# Altium integrated library Diodes - TVS.IntLib: 5379 symbols (part 4 of 122)
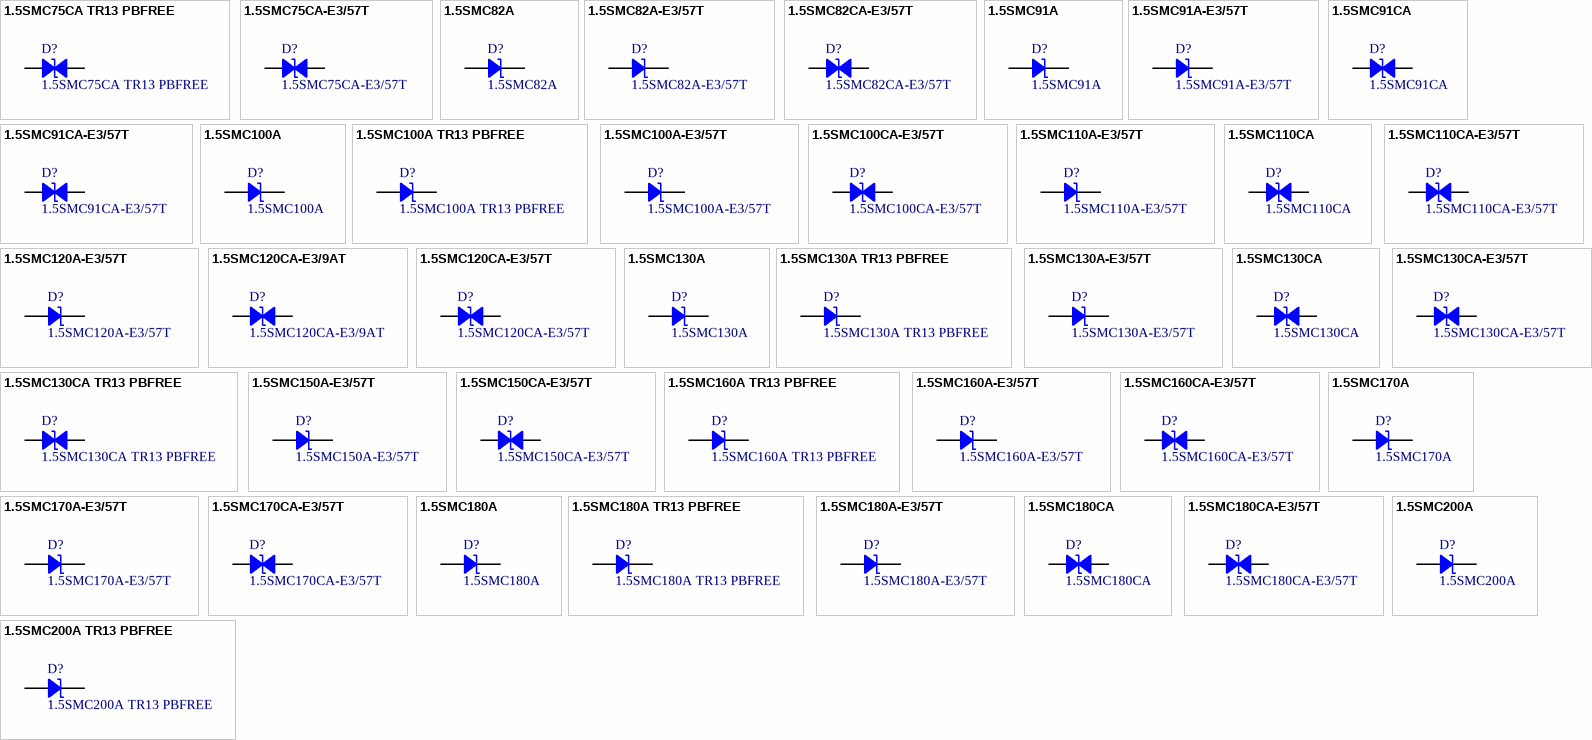
[diagram p137: symbols 1.5SMC75CA TR13 PBFREE to 1.5SMC200A TR13 PBFREE]

## 1.5SMC100A TR13 PBFREE
designator D?
TVS DIODE 85.5V 137V SMC; Manufacturer: Central Semiconductor Corp; Current - Peak Pulse (10/1000µs): 11A; Power Line Protection: No; Power - Peak Pulse: 1500W (1.5kW); Type: Zener; Unidirectional Channels: 1; Voltage - Breakdown (Min): 95V; Part Number: 1.5SMC100A TR13 PBFREE; Applications: General Purpose; ComponentLink1Description: Datasheet; ComponentLink1URL: https://my.centralsemi.com/get_document.php?cmp=1&mergetype=pd&mergepath=pd&pdf_id=1.5SMC6.8A_200A.PDF; ComponentLink2Description: DigiKey Link; ComponentLink2URL: http://digikey.com/product-detail/en/central-semiconductor-corp/1.5SMC100A-TR13-PBFREE/1514-1.5SMC100ATR13PBFREECT-ND/5210741; LastUpdated: 9/2/2020 1:20:07 AM; Lifecycle Status: Active; Minimum Order: 1; Mounting Type: Surface Mount; Operating Temperature: -65°C ~ 150°C (TJ); Package / Case: DO-214AB, SMC; Packaging: TapeAndReel; PartId: 7125; Part Status: Active; Price: 0.40; Series: -; Supplier 1: DigiKey; Supplier Part Number 1: 1514-1.5SMC100ATR13PBFREECT-ND; Supplier Device Package: SMC; Voltage - Clamping (Max) @ Ipp: 137V; Voltage - Reverse Standoff (Typ): 85.5V
footprint DO214AB SMC
pins: 1, 2

## 1.5SMC100A-E3/57T
designator D?
TVS DIODE 85.5V 137V DO214AB; Manufacturer: Vishay Semiconductor Diodes Division; Current - Peak Pulse (10/1000µs): 10.9A; Power Line Protection: No; Power - Peak Pulse: 1500W (1.5kW); Type: Zener; Unidirectional Channels: 1; Voltage - Breakdown (Min): 95V; Part Number: 1.5SMC100A-E3/57T; Applications: General Purpose; ComponentLink1Description: Datasheet; ComponentLink1URL: http://www.vishay.com/docs/88303/15smc.pdf; ComponentLink2Description: DigiKey Link; ComponentLink2URL: http://digikey.com/product-detail/en/vishay-semiconductor-diodes-division/1.5SMC100A-E3-57T/1.5SMC100A-E3-57TGICT-ND/5638963; LastUpdated: 9/2/2020 1:20:05 AM; Lifecycle Status: Active; Minimum Order: 1; Mounting Type: Surface Mount; Operating Temperature: -65°C ~ 150°C (TJ); Package / Case: DO-214AB, SMC; Packaging: TapeAndReel; PartId: 6916; Part Status: Active; Price: 0.28; Series: 1.5SMC, TransZorb®; Supplier 1: DigiKey; Supplier Part Number 1: 1.5SMC100A-E3/57TGICT-ND; Supplier Device Package: SMC (DO-214AB); Voltage - Clamping (Max) @ Ipp: 137V; Voltage - Reverse Standoff (Typ): 85.5V
footprint DO214AB SMC
pins: 1, 2

## 1.5SMC100CA-E3/57T
designator D?
TVS DIODE 85.5V 137V DO214AB; Manufacturer: Vishay Semiconductor Diodes Division; Bidirectional Channels: 1; Current - Peak Pulse (10/1000µs): 10.9A; Power Line Protection: No; Power - Peak Pulse: 1500W (1.5kW); Type: Zener; Voltage - Breakdown (Min): 95V; Part Number: 1.5SMC100CA-E3/57T; Applications: General Purpose; ComponentLink1Description: Datasheet; ComponentLink1URL: http://www.vishay.com/docs/88303/15smc.pdf; ComponentLink2Description: DigiKey Link; ComponentLink2URL: http://digikey.com/product-detail/en/vishay-semiconductor-diodes-division/1.5SMC100CA-E3-57T/1.5SMC100CA-E3-57TGICT-ND/5638964; LastUpdated: 9/2/2020 1:28:02 AM; Lifecycle Status: Active; Minimum Order: 1; Mounting Type: Surface Mount; Operating Temperature: -65°C ~ 150°C (TJ); Package / Case: DO-214AB, SMC; Packaging: TapeAndReel; PartId: 8048; Part Status: Active; Price: 0.33; Series: 1.5SMC, TransZorb®; Supplier 1: DigiKey; Supplier Part Number 1: 1.5SMC100CA-E3/57TGICT-ND; Supplier Device Package: SMC (DO-214AB); Voltage - Clamping (Max) @ Ipp: 137V; Voltage - Reverse Standoff (Typ): 85.5V
footprint DO214AB SMC
pins: 1, 2

## 1.5SMC110A-E3/57T
designator D?
TVS DIODE 94V 152V DO214AB; Manufacturer: Vishay Semiconductor Diodes Division; Current - Peak Pulse (10/1000µs): 9.9A; Power Line Protection: No; Power - Peak Pulse: 1500W (1.5kW); Type: Zener; Unidirectional Channels: 1; Voltage - Breakdown (Min): 105V; Part Number: 1.5SMC110A-E3/57T; Applications: General Purpose; ComponentLink1Description: Datasheet; ComponentLink1URL: http://www.vishay.com/docs/88303/15smc.pdf; ComponentLink2Description: DigiKey Link; ComponentLink2URL: http://digikey.com/product-detail/en/vishay-semiconductor-diodes-division/1.5SMC110A-E3-57T/1.5SMC110A-E3-57TGICT-ND/5638967; LastUpdated: 9/2/2020 1:20:03 AM; Lifecycle Status: Active; Minimum Order: 1; Mounting Type: Surface Mount; Operating Temperature: -65°C ~ 150°C (TJ); Package / Case: DO-214AB, SMC; Packaging: TapeAndReel; PartId: 6688; Part Status: Active; Price: 0.28; Series: 1.5SMC, TransZorb®; Supplier 1: DigiKey; Supplier Part Number 1: 1.5SMC110A-E3/57TGICT-ND; Supplier Device Package: SMC (DO-214AB); Voltage - Clamping (Max) @ Ipp: 152V; Voltage - Reverse Standoff (Typ): 94V
footprint DO214AB SMC
pins: 1, 2

## 1.5SMC110CA
designator D?
TVS DIODE 94V 152V DO214AB; Manufacturer: Littelfuse Inc.; Bidirectional Channels: 1; Current - Peak Pulse (10/1000µs): 10A; Power Line Protection: No; Power - Peak Pulse: 1500W (1.5kW); Type: Zener; Voltage - Breakdown (Min): 105V; Part Number: 1.5SMC110CA; Applications: General Purpose; ComponentLink1Description: Datasheet; ComponentLink1URL: https://www.littelfuse.com/~/media/electronics/datasheets/tvs_diodes/littelfuse_tvs_diode_1_5smc_datasheet.pdf.pdf; ComponentLink2Description: DigiKey Link; ComponentLink2URL: http://digikey.com/product-detail/en/littelfuse-inc/1.5SMC110CA/1.5SMC110CACT-ND/2770244; LastUpdated: 9/2/2020 1:28:02 AM; Lifecycle Status: Active; Minimum Order: 1; Mounting Type: Surface Mount; Operating Temperature: -55°C ~ 150°C (TJ); Package / Case: DO-214AB, SMC; Packaging: TapeAndReel; PartId: 8039; Part Status: Active; Price: 0.27; Series: 1.5SMC; Supplier 1: DigiKey; Supplier Part Number 1: 1.5SMC110CACT-ND; Supplier Device Package: DO-214AB (SMCJ); Voltage - Clamping (Max) @ Ipp: 152V; Voltage - Reverse Standoff (Typ): 94V
footprint DO214AB SMC
pins: 1, 2

## 1.5SMC110CA-E3/57T
designator D?
TVS DIODE 94V 152V DO214AB; Manufacturer: Vishay Semiconductor Diodes Division; Bidirectional Channels: 1; Current - Peak Pulse (10/1000µs): 9.9A; Power Line Protection: No; Power - Peak Pulse: 1500W (1.5kW); Type: Zener; Voltage - Breakdown (Min): 105V; Part Number: 1.5SMC110CA-E3/57T; Applications: General Purpose; ComponentLink1Description: Datasheet; ComponentLink1URL: http://www.vishay.com/docs/88303/15smc.pdf; ComponentLink2Description: DigiKey Link; ComponentLink2URL: http://digikey.com/product-detail/en/vishay-semiconductor-diodes-division/1.5SMC110CA-E3-57T/1.5SMC110CA-E3-57TGICT-ND/5638968; LastUpdated: 9/2/2020 1:28:08 AM; Lifecycle Status: Active; Minimum Order: 1; Mounting Type: Surface Mount; Operating Temperature: -65°C ~ 150°C (TJ); Package / Case: DO-214AB, SMC; Packaging: TapeAndReel; PartId: 8657; Part Status: Active; Price: 0.33; Series: 1.5SMC, TransZorb®; Supplier 1: DigiKey; Supplier Part Number 1: 1.5SMC110CA-E3/57TGICT-ND; Supplier Device Package: SMC (DO-214AB); Voltage - Clamping (Max) @ Ipp: 152V; Voltage - Reverse Standoff (Typ): 94V
footprint DO214AB SMC
pins: 1, 2

## 1.5SMC120A-E3/57T
designator D?
TVS DIODE 102V 165V DO214AB; Manufacturer: Vishay Semiconductor Diodes Division; Current - Peak Pulse (10/1000µs): 9.1A; Power Line Protection: No; Power - Peak Pulse: 1500W (1.5kW); Type: Zener; Unidirectional Channels: 1; Voltage - Breakdown (Min): 114V; Part Number: 1.5SMC120A-E3/57T; Applications: General Purpose; ComponentLink1Description: Datasheet; ComponentLink1URL: http://www.vishay.com/docs/88303/15smc.pdf; ComponentLink2Description: DigiKey Link; ComponentLink2URL: http://digikey.com/product-detail/en/vishay-semiconductor-diodes-division/1.5SMC120A-E3-57T/1.5SMC120A-E3-57TGICT-ND/5638971; LastUpdated: 9/2/2020 1:20:07 AM; Lifecycle Status: Active; Minimum Order: 1; Mounting Type: Surface Mount; Operating Temperature: -65°C ~ 150°C (TJ); Package / Case: DO-214AB, SMC; Packaging: TapeAndReel; PartId: 7152; Part Status: Active; Price: 0.28; Series: 1.5SMC, TransZorb®; Supplier 1: DigiKey; Supplier Part Number 1: 1.5SMC120A-E3/57TGICT-ND; Supplier Device Package: SMC (DO-214AB); Voltage - Clamping (Max) @ Ipp: 165V; Voltage - Reverse Standoff (Typ): 102V
footprint DO214AB SMC
pins: 1, 2

## 1.5SMC120CA-E3/9AT
designator D?
TVS DIODE 102V 165V DO214AB; Manufacturer: Vishay Semiconductor Diodes Division; Bidirectional Channels: 1; Current - Peak Pulse (10/1000µs): 9.1A; Power Line Protection: No; Power - Peak Pulse: 1500W (1.5kW); Type: Zener; Voltage - Breakdown (Min): 114V; Part Number: 1.5SMC120CA-E3/9AT; Applications: General Purpose; ComponentLink1Description: Datasheet; ComponentLink1URL: http://www.vishay.com/docs/88303/15smc.pdf; ComponentLink2Description: DigiKey Link; ComponentLink2URL: http://digikey.com/product-detail/en/vishay-semiconductor-diodes-division/1.5SMC120CA-E3-9AT/1.5SMC120CA-E3-9ATGICT-ND/9600361; LastUpdated: 9/2/2020 1:28:04 AM; Lifecycle Status: Active; Minimum Order: 1; Mounting Type: Surface Mount; Operating Temperature: -65°C ~ 150°C (TJ); Package / Case: DO-214AB, SMC; Packaging: TapeAndReel; PartId: 8227; Part Status: Active; Price: 0.26; Series: 1.5SMC, TransZorb®; Supplier 1: DigiKey; Supplier Part Number 1: 1.5SMC120CA-E3/9ATGICT-ND; Supplier Device Package: SMC (DO-214AB); Voltage - Clamping (Max) @ Ipp: 165V; Voltage - Reverse Standoff (Typ): 102V
footprint DO214AB SMC
pins: 1, 2

## 1.5SMC120CA-E3/57T
designator D?
TVS DIODE 102V 165V DO214AB; Manufacturer: Vishay Semiconductor Diodes Division; Bidirectional Channels: 1; Current - Peak Pulse (10/1000µs): 9.1A; Power Line Protection: No; Power - Peak Pulse: 1500W (1.5kW); Type: Zener; Voltage - Breakdown (Min): 114V; Part Number: 1.5SMC120CA-E3/57T; Applications: General Purpose; ComponentLink1Description: Datasheet; ComponentLink1URL: http://www.vishay.com/docs/88303/15smc.pdf; ComponentLink2Description: DigiKey Link; ComponentLink2URL: http://digikey.com/product-detail/en/vishay-semiconductor-diodes-division/1.5SMC120CA-E3-57T/1.5SMC120CA-E3-57TGICT-ND/3847591; LastUpdated: 9/2/2020 1:28:09 AM; Lifecycle Status: Active; Minimum Order: 1; Mounting Type: Surface Mount; Operating Temperature: -65°C ~ 150°C (TJ); Package / Case: DO-214AB, SMC; Packaging: TapeAndReel; PartId: 8746; Part Status: Active; Price: 0.28; Series: 1.5SMC, TransZorb®; Supplier 1: DigiKey; Supplier Part Number 1: 1.5SMC120CA-E3/57TGICT-ND; Supplier Device Package: SMC (DO-214AB); Voltage - Clamping (Max) @ Ipp: 165V; Voltage - Reverse Standoff (Typ): 102V
footprint DO214AB SMC
pins: 1, 2

## 1.5SMC130A
designator D?
TVS DIODE 111V 179V DO214AB; Manufacturer: Littelfuse Inc.; Current - Peak Pulse (10/1000µs): 8.5A; Power Line Protection: No; Power - Peak Pulse: 1500W (1.5kW); Type: Zener; Unidirectional Channels: 1; Voltage - Breakdown (Min): 124V; Part Number: 1.5SMC130A; Applications: General Purpose; ComponentLink1Description: Datasheet; ComponentLink1URL: https://www.littelfuse.com/~/media/electronics/datasheets/tvs_diodes/littelfuse_tvs_diode_1_5smc_datasheet.pdf.pdf; ComponentLink2Description: DigiKey Link; ComponentLink2URL: http://digikey.com/product-detail/en/littelfuse-inc/1.5SMC130A/1.5SMC130ACT-ND/2770245; LastUpdated: 9/2/2020 1:20:00 AM; Lifecycle Status: Active; Minimum Order: 1; Mounting Type: Surface Mount; Operating Temperature: -55°C ~ 150°C (TJ); Package / Case: DO-214AB, SMC; Packaging: TapeAndReel; PartId: 6395; Part Status: Active; Price: 0.25; Series: 1.5SMC; Supplier 1: DigiKey; Supplier Part Number 1: 1.5SMC130ACT-ND; Supplier Device Package: DO-214AB (SMCJ); Voltage - Clamping (Max) @ Ipp: 179V; Voltage - Reverse Standoff (Typ): 111V
footprint DO214AB SMC
pins: 1, 2

## 1.5SMC130A TR13 PBFREE
designator D?
TVS DIODE 111V 179V SMC; Manufacturer: Central Semiconductor Corp; Current - Peak Pulse (10/1000µs): 8.4A; Power Line Protection: No; Power - Peak Pulse: 1500W (1.5kW); Type: Zener; Unidirectional Channels: 1; Voltage - Breakdown (Min): 123.5V; Part Number: 1.5SMC130A TR13 PBFREE; Applications: General Purpose; ComponentLink1Description: Datasheet; ComponentLink1URL: https://my.centralsemi.com/get_document.php?cmp=1&mergetype=pd&mergepath=pd&pdf_id=1.5SMC6.8A_200A.PDF; ComponentLink2Description: DigiKey Link; ComponentLink2URL: http://digikey.com/product-detail/en/central-semiconductor-corp/1.5SMC130A-TR13-PBFREE/1514-1.5SMC130ATR13PBFREECT-ND/5210753; LastUpdated: 9/2/2020 1:20:07 AM; Lifecycle Status: Active; Minimum Order: 1; Mounting Type: Surface Mount; Operating Temperature: -65°C ~ 150°C (TJ); Package / Case: DO-214AB, SMC; Packaging: TapeAndReel; PartId: 7123; Part Status: Active; Price: 0.40; Series: -; Supplier 1: DigiKey; Supplier Part Number 1: 1514-1.5SMC130ATR13PBFREECT-ND; Supplier Device Package: SMC; Voltage - Clamping (Max) @ Ipp: 179V; Voltage - Reverse Standoff (Typ): 111V
footprint DO214AB SMC
pins: 1, 2

## 1.5SMC130A-E3/57T
designator D?
TVS DIODE 111V 179V DO214AB; Manufacturer: Vishay Semiconductor Diodes Division; Current - Peak Pulse (10/1000µs): 8.4A; Power Line Protection: No; Power - Peak Pulse: 1500W (1.5kW); Type: Zener; Unidirectional Channels: 1; Voltage - Breakdown (Min): 124V; Part Number: 1.5SMC130A-E3/57T; Applications: General Purpose; ComponentLink1Description: Datasheet; ComponentLink1URL: http://www.vishay.com/docs/88303/15smc.pdf; ComponentLink2Description: DigiKey Link; ComponentLink2URL: http://digikey.com/product-detail/en/vishay-semiconductor-diodes-division/1.5SMC130A-E3-57T/1.5SMC130A-E3-57TGICT-ND/5638972; LastUpdated: 9/2/2020 1:20:00 AM; Lifecycle Status: Active; Minimum Order: 1; Mounting Type: Surface Mount; Operating Temperature: -65°C ~ 150°C (TJ); Package / Case: DO-214AB, SMC; Packaging: TapeAndReel; PartId: 6405; Part Status: Active; Price: 0.28; Series: 1.5SMC, TransZorb®; Supplier 1: DigiKey; Supplier Part Number 1: 1.5SMC130A-E3/57TGICT-ND; Supplier Device Package: SMC (DO-214AB); Voltage - Clamping (Max) @ Ipp: 179V; Voltage - Reverse Standoff (Typ): 111V
footprint DO214AB SMC
pins: 1, 2

## 1.5SMC130CA
designator D?
TVS DIODE 111V 179V DO214AB; Manufacturer: Littelfuse Inc.; Bidirectional Channels: 1; Current - Peak Pulse (10/1000µs): 8.5A; Power Line Protection: No; Power - Peak Pulse: 1500W (1.5kW); Type: Zener; Voltage - Breakdown (Min): 124V; Part Number: 1.5SMC130CA; Applications: General Purpose; ComponentLink1Description: Datasheet; ComponentLink1URL: https://www.littelfuse.com/~/media/electronics/datasheets/tvs_diodes/littelfuse_tvs_diode_1_5smc_datasheet.pdf.pdf; ComponentLink2Description: DigiKey Link; ComponentLink2URL: http://digikey.com/product-detail/en/littelfuse-inc/1.5SMC130CA/1.5SMC130CACT-ND/2770246; LastUpdated: 9/2/2020 1:28:08 AM; Lifecycle Status: Active; Minimum Order: 1; Mounting Type: Surface Mount; Operating Temperature: -55°C ~ 150°C (TJ); Package / Case: DO-214AB, SMC; Packaging: TapeAndReel; PartId: 8709; Part Status: Active; Price: 0.31; Series: 1.5SMC; Supplier 1: DigiKey; Supplier Part Number 1: 1.5SMC130CACT-ND; Supplier Device Package: DO-214AB (SMCJ); Voltage - Clamping (Max) @ Ipp: 179V; Voltage - Reverse Standoff (Typ): 111V
footprint DO214AB SMC
pins: 1, 2

## 1.5SMC130CA TR13 PBFREE
designator D?
TVS DIODE 111V 179V SMC; Manufacturer: Central Semiconductor Corp; Bidirectional Channels: 1; Current - Peak Pulse (10/1000µs): 8.4A; Power Line Protection: No; Power - Peak Pulse: 1500W (1.5kW); Type: Zener; Voltage - Breakdown (Min): 123.5V; Part Number: 1.5SMC130CA TR13 PBFREE; Applications: General Purpose; ComponentLink1Description: Datasheet; ComponentLink1URL: https://my.centralsemi.com/get_document.php?cmp=1&mergetype=pd&mergepath=pd&pdf_id=1.5SMC6.8CA_200CA.PDF; ComponentLink2Description: DigiKey Link; ComponentLink2URL: http://digikey.com/product-detail/en/central-semiconductor-corp/1.5SMC130CA-TR13-PBFREE/1514-1.5SMC130CATR13PBFREECT-ND/5210754; LastUpdated: 9/2/2020 1:28:03 AM; Lifecycle Status: Active; Minimum Order: 1; Mounting Type: Surface Mount; Operating Temperature: -65°C ~ 150°C (TJ); Package / Case: DO-214AB, SMC; Packaging: TapeAndReel; PartId: 8072; Part Status: Active; Price: 0.54; Series: -; Supplier 1: DigiKey; Supplier Part Number 1: 1514-1.5SMC130CATR13PBFREECT-ND; Supplier Device Package: SMC; Voltage - Clamping (Max) @ Ipp: 179V; Voltage - Reverse Standoff (Typ): 111V
footprint DO214AB SMC
pins: 1, 2

## 1.5SMC130CA-E3/57T
designator D?
TVS DIODE 111V 179V DO214AB; Manufacturer: Vishay Semiconductor Diodes Division; Bidirectional Channels: 1; Current - Peak Pulse (10/1000µs): 8.4A; Power Line Protection: No; Power - Peak Pulse: 1500W (1.5kW); Type: Zener; Voltage - Breakdown (Min): 124V; Part Number: 1.5SMC130CA-E3/57T; Applications: General Purpose; ComponentLink1Description: Datasheet; ComponentLink1URL: http://www.vishay.com/docs/88303/15smc.pdf; ComponentLink2Description: DigiKey Link; ComponentLink2URL: http://digikey.com/product-detail/en/vishay-semiconductor-diodes-division/1.5SMC130CA-E3-57T/1.5SMC130CA-E3-57TGICT-ND/3847592; LastUpdated: 9/2/2020 1:28:09 AM; Lifecycle Status: Active; Minimum Order: 1; Mounting Type: Surface Mount; Operating Temperature: -65°C ~ 150°C (TJ); Package / Case: DO-214AB, SMC; Packaging: TapeAndReel; PartId: 8740; Part Status: Active; Price: 0.33; Series: 1.5SMC, TransZorb®; Supplier 1: DigiKey; Supplier Part Number 1: 1.5SMC130CA-E3/57TGICT-ND; Supplier Device Package: SMC (DO-214AB); Voltage - Clamping (Max) @ Ipp: 179V; Voltage - Reverse Standoff (Typ): 111V
footprint DO214AB SMC
pins: 1, 2

## 1.5SMC150A-E3/57T
designator D?
TVS DIODE 128V 207V DO214AB; Manufacturer: Vishay Semiconductor Diodes Division; Current - Peak Pulse (10/1000µs): 7.2A; Power Line Protection: No; Power - Peak Pulse: 1500W (1.5kW); Type: Zener; Unidirectional Channels: 1; Voltage - Breakdown (Min): 143V; Part Number: 1.5SMC150A-E3/57T; Applications: General Purpose; ComponentLink1Description: Datasheet; ComponentLink1URL: http://www.vishay.com/docs/88303/15smc.pdf; ComponentLink2Description: DigiKey Link; ComponentLink2URL: http://digikey.com/product-detail/en/vishay-semiconductor-diodes-division/1.5SMC150A-E3-57T/1.5SMC150A-E3-57TGICT-ND/3711896; LastUpdated: 9/2/2020 1:19:59 AM; Lifecycle Status: Active; Minimum Order: 1; Mounting Type: Surface Mount; Operating Temperature: -65°C ~ 150°C (TJ); Package / Case: DO-214AB, SMC; Packaging: TapeAndReel; PartId: 6272; Part Status: Active; Price: 0.28; Series: 1.5SMC, TransZorb®; Supplier 1: DigiKey; Supplier Part Number 1: 1.5SMC150A-E3/57TGICT-ND; Supplier Device Package: SMC (DO-214AB); Voltage - Clamping (Max) @ Ipp: 207V; Voltage - Reverse Standoff (Typ): 128V
footprint DO214AB SMC
pins: 1, 2

## 1.5SMC150CA-E3/57T
designator D?
TVS DIODE 128V 207V DO214AB; Manufacturer: Vishay Semiconductor Diodes Division; Bidirectional Channels: 1; Current - Peak Pulse (10/1000µs): 7.2A; Power Line Protection: No; Power - Peak Pulse: 1500W (1.5kW); Type: Zener; Voltage - Breakdown (Min): 143V; Part Number: 1.5SMC150CA-E3/57T; Applications: General Purpose; ComponentLink1Description: Datasheet; ComponentLink1URL: http://www.vishay.com/docs/88303/15smc.pdf; ComponentLink2Description: DigiKey Link; ComponentLink2URL: http://digikey.com/product-detail/en/vishay-semiconductor-diodes-division/1.5SMC150CA-E3-57T/1.5SMC150CA-E3-57TGICT-ND/5638975; LastUpdated: 9/2/2020 1:28:09 AM; Lifecycle Status: Active; Minimum Order: 1; Mounting Type: Surface Mount; Operating Temperature: -65°C ~ 150°C (TJ); Package / Case: DO-214AB, SMC; Packaging: TapeAndReel; PartId: 8742; Part Status: Active; Price: 0.33; Series: 1.5SMC, TransZorb®; Supplier 1: DigiKey; Supplier Part Number 1: 1.5SMC150CA-E3/57TGICT-ND; Supplier Device Package: SMC (DO-214AB); Voltage - Clamping (Max) @ Ipp: 207V; Voltage - Reverse Standoff (Typ): 128V
footprint DO214AB SMC
pins: 1, 2

## 1.5SMC160A TR13 PBFREE
designator D?
TVS DIODE 136V 219V SMC; Manufacturer: Central Semiconductor Corp; Current - Peak Pulse (10/1000µs): 6.8A; Power Line Protection: No; Power - Peak Pulse: 1500W (1.5kW); Type: Zener; Unidirectional Channels: 1; Voltage - Breakdown (Min): 152V; Part Number: 1.5SMC160A TR13 PBFREE; Applications: General Purpose; ComponentLink1Description: Datasheet; ComponentLink1URL: https://my.centralsemi.com/get_document.php?cmp=1&mergetype=pd&mergepath=pd&pdf_id=1.5SMC6.8A_200A.PDF; ComponentLink2Description: DigiKey Link; ComponentLink2URL: http://digikey.com/product-detail/en/central-semiconductor-corp/1.5SMC160A-TR13-PBFREE/1514-1.5SMC160ATR13PBFREECT-ND/5210761; LastUpdated: 9/2/2020 1:19:58 AM; Lifecycle Status: Active; Minimum Order: 1; Mounting Type: Surface Mount; Operating Temperature: -65°C ~ 150°C (TJ); Package / Case: DO-214AB, SMC; Packaging: TapeAndReel; PartId: 6263; Part Status: Active; Price: 0.40; Series: -; Supplier 1: DigiKey; Supplier Part Number 1: 1514-1.5SMC160ATR13PBFREECT-ND; Supplier Device Package: SMC; Voltage - Clamping (Max) @ Ipp: 219V; Voltage - Reverse Standoff (Typ): 136V
footprint DO214AB SMC
pins: 1, 2

## 1.5SMC160A-E3/57T
designator D?
TVS DIODE 136V 219V DO214AB; Manufacturer: Vishay Semiconductor Diodes Division; Current - Peak Pulse (10/1000µs): 6.8A; Power Line Protection: No; Power - Peak Pulse: 1500W (1.5kW); Type: Zener; Unidirectional Channels: 1; Voltage - Breakdown (Min): 152V; Part Number: 1.5SMC160A-E3/57T; Applications: General Purpose; ComponentLink1Description: Datasheet; ComponentLink1URL: http://www.vishay.com/docs/88303/15smc.pdf; ComponentLink2Description: DigiKey Link; ComponentLink2URL: http://digikey.com/product-detail/en/vishay-semiconductor-diodes-division/1.5SMC160A-E3-57T/1.5SMC160A-E3-57TGICT-ND/5638976; LastUpdated: 9/2/2020 1:20:07 AM; Lifecycle Status: Active; Minimum Order: 1; Mounting Type: Surface Mount; Operating Temperature: -65°C ~ 150°C (TJ); Package / Case: DO-214AB, SMC; Packaging: TapeAndReel; PartId: 7151; Part Status: Active; Price: 0.28; Series: 1.5SMC, TransZorb®; Supplier 1: DigiKey; Supplier Part Number 1: 1.5SMC160A-E3/57TGICT-ND; Supplier Device Package: SMC (DO-214AB); Voltage - Clamping (Max) @ Ipp: 219V; Voltage - Reverse Standoff (Typ): 136V
footprint DO214AB SMC
pins: 1, 2

## 1.5SMC160CA-E3/57T
designator D?
TVS DIODE 136V 219V DO214AB; Manufacturer: Vishay Semiconductor Diodes Division; Bidirectional Channels: 1; Current - Peak Pulse (10/1000µs): 6.8A; Power Line Protection: No; Power - Peak Pulse: 1500W (1.5kW); Type: Zener; Voltage - Breakdown (Min): 152V; Part Number: 1.5SMC160CA-E3/57T; Applications: General Purpose; ComponentLink1Description: Datasheet; ComponentLink1URL: http://www.vishay.com/docs/88303/15smc.pdf; ComponentLink2Description: DigiKey Link; ComponentLink2URL: http://digikey.com/product-detail/en/vishay-semiconductor-diodes-division/1.5SMC160CA-E3-57T/1.5SMC160CA-E3-57TGICT-ND/5638977; LastUpdated: 9/2/2020 1:28:05 AM; Lifecycle Status: Active; Minimum Order: 1; Mounting Type: Surface Mount; Operating Temperature: -65°C ~ 150°C (TJ); Package / Case: DO-214AB, SMC; Packaging: TapeAndReel; PartId: 8295; Part Status: Active; Price: 0.33; Series: 1.5SMC, TransZorb®; Supplier 1: DigiKey; Supplier Part Number 1: 1.5SMC160CA-E3/57TGICT-ND; Supplier Device Package: SMC (DO-214AB); Voltage - Clamping (Max) @ Ipp: 219V; Voltage - Reverse Standoff (Typ): 136V
footprint DO214AB SMC
pins: 1, 2

## 1.5SMC170A
designator D?
TVS DIODE 145V 234V DO214AB; Manufacturer: Littelfuse Inc.; Current - Peak Pulse (10/1000µs): 6.5A; Power Line Protection: No; Power - Peak Pulse: 1500W (1.5kW); Type: Zener; Unidirectional Channels: 1; Voltage - Breakdown (Min): 162V; Part Number: 1.5SMC170A; Applications: General Purpose; ComponentLink1Description: Datasheet; ComponentLink1URL: https://www.littelfuse.com/~/media/electronics/datasheets/tvs_diodes/littelfuse_tvs_diode_1_5smc_datasheet.pdf.pdf; ComponentLink2Description: DigiKey Link; ComponentLink2URL: http://digikey.com/product-detail/en/littelfuse-inc/1.5SMC170A/1.5SMC170ACT-ND/2770249; LastUpdated: 9/2/2020 1:20:03 AM; Lifecycle Status: Active; Minimum Order: 1; Mounting Type: Surface Mount; Operating Temperature: -55°C ~ 150°C (TJ); Package / Case: DO-214AB, SMC; Packaging: TapeAndReel; PartId: 6679; Part Status: Active; Price: 0.25; Series: 1.5SMC; Supplier 1: DigiKey; Supplier Part Number 1: 1.5SMC170ACT-ND; Supplier Device Package: DO-214AB (SMCJ); Voltage - Clamping (Max) @ Ipp: 234V; Voltage - Reverse Standoff (Typ): 145V
footprint DO214AB SMC
pins: 1, 2

## 1.5SMC170A-E3/57T
designator D?
TVS DIODE 145V 234V DO214AB; Manufacturer: Vishay Semiconductor Diodes Division; Current - Peak Pulse (10/1000µs): 6.4A; Power Line Protection: No; Power - Peak Pulse: 1500W (1.5kW); Type: Zener; Unidirectional Channels: 1; Voltage - Breakdown (Min): 162V; Part Number: 1.5SMC170A-E3/57T; Applications: General Purpose; ComponentLink1Description: Datasheet; ComponentLink1URL: http://www.vishay.com/docs/88303/15smc.pdf; ComponentLink2Description: DigiKey Link; ComponentLink2URL: http://digikey.com/product-detail/en/vishay-semiconductor-diodes-division/1.5SMC170A-E3-57T/1.5SMC170A-E3-57TGICT-ND/5638979; LastUpdated: 9/2/2020 1:19:59 AM; Lifecycle Status: Active; Minimum Order: 1; Mounting Type: Surface Mount; Operating Temperature: -65°C ~ 150°C (TJ); Package / Case: DO-214AB, SMC; Packaging: TapeAndReel; PartId: 6269; Part Status: Active; Price: 0.28; Series: 1.5SMC, TransZorb®; Supplier 1: DigiKey; Supplier Part Number 1: 1.5SMC170A-E3/57TGICT-ND; Supplier Device Package: SMC (DO-214AB); Voltage - Clamping (Max) @ Ipp: 234V; Voltage - Reverse Standoff (Typ): 145V
footprint DO214AB SMC
pins: 1, 2

## 1.5SMC170CA-E3/57T
designator D?
TVS DIODE 145V 234V DO214AB; Manufacturer: Vishay Semiconductor Diodes Division; Bidirectional Channels: 1; Current - Peak Pulse (10/1000µs): 6.4A; Power Line Protection: No; Power - Peak Pulse: 1500W (1.5kW); Type: Zener; Voltage - Breakdown (Min): 162V; Part Number: 1.5SMC170CA-E3/57T; Applications: General Purpose; ComponentLink1Description: Datasheet; ComponentLink1URL: http://www.vishay.com/docs/88303/15smc.pdf; ComponentLink2Description: DigiKey Link; ComponentLink2URL: http://digikey.com/product-detail/en/vishay-semiconductor-diodes-division/1.5SMC170CA-E3-57T/1.5SMC170CA-E3-57TGICT-ND/5638980; LastUpdated: 9/2/2020 1:28:05 AM; Lifecycle Status: Active; Minimum Order: 1; Mounting Type: Surface Mount; Operating Temperature: -65°C ~ 150°C (TJ); Package / Case: DO-214AB, SMC; Packaging: TapeAndReel; PartId: 8303; Part Status: Active; Price: 0.33; Series: 1.5SMC, TransZorb®; Supplier 1: DigiKey; Supplier Part Number 1: 1.5SMC170CA-E3/57TGICT-ND; Supplier Device Package: SMC (DO-214AB); Voltage - Clamping (Max) @ Ipp: 234V; Voltage - Reverse Standoff (Typ): 145V
footprint DO214AB SMC
pins: 1, 2

## 1.5SMC180A
designator D?
TVS DIODE 154V 246V DO214AB; Manufacturer: Littelfuse Inc.; Current - Peak Pulse (10/1000µs): 6.2A; Power Line Protection: No; Power - Peak Pulse: 1500W (1.5kW); Type: Zener; Unidirectional Channels: 1; Voltage - Breakdown (Min): 171V; Part Number: 1.5SMC180A; Applications: General Purpose; ComponentLink1Description: Datasheet; ComponentLink1URL: https://www.littelfuse.com/~/media/electronics/datasheets/tvs_diodes/littelfuse_tvs_diode_1_5smc_datasheet.pdf.pdf; ComponentLink2Description: DigiKey Link; ComponentLink2URL: http://digikey.com/product-detail/en/littelfuse-inc/1.5SMC180A/1.5SMC180ACT-ND/2770250; LastUpdated: 9/2/2020 1:20:00 AM; Lifecycle Status: Active; Minimum Order: 1; Mounting Type: Surface Mount; Operating Temperature: -55°C ~ 150°C (TJ); Package / Case: DO-214AB, SMC; Packaging: TapeAndReel; PartId: 6396; Part Status: Active; Price: 0.25; Series: 1.5SMC; Supplier 1: DigiKey; Supplier Part Number 1: 1.5SMC180ACT-ND; Supplier Device Package: DO-214AB (SMCJ); Voltage - Clamping (Max) @ Ipp: 246V; Voltage - Reverse Standoff (Typ): 154V
footprint DO214AB SMC
pins: 1, 2

## 1.5SMC180A TR13 PBFREE
designator D?
TVS DIODE 154V 246V SMC; Manufacturer: Central Semiconductor Corp; Current - Peak Pulse (10/1000µs): 6.1A; Power Line Protection: No; Power - Peak Pulse: 1500W (1.5kW); Type: Zener; Unidirectional Channels: 1; Voltage - Breakdown (Min): 171V; Part Number: 1.5SMC180A TR13 PBFREE; Applications: General Purpose; ComponentLink1Description: Datasheet; ComponentLink1URL: https://my.centralsemi.com/get_document.php?cmp=1&mergetype=pd&mergepath=pd&pdf_id=1.5SMC6.8A_200A.PDF; ComponentLink2Description: DigiKey Link; ComponentLink2URL: http://digikey.com/product-detail/en/central-semiconductor-corp/1.5SMC180A-TR13-PBFREE/1514-1.5SMC180ATR13PBFREECT-ND/5210767; LastUpdated: 9/2/2020 1:20:07 AM; Lifecycle Status: Active; Minimum Order: 1; Mounting Type: Surface Mount; Operating Temperature: -65°C ~ 150°C (TJ); Package / Case: DO-214AB, SMC; Packaging: CutTape; PartId: 7126; Part Status: Active; Price: 0.95; Series: -; Supplier 1: DigiKey; Supplier Part Number 1: 1514-1.5SMC180ATR13PBFREECT-ND; Supplier Device Package: SMC; Voltage - Clamping (Max) @ Ipp: 246V; Voltage - Reverse Standoff (Typ): 154V
footprint DO214AB SMC
pins: 1, 2

## 1.5SMC180A-E3/57T
designator D?
TVS DIODE 154V 246V DO214AB; Manufacturer: Vishay Semiconductor Diodes Division; Current - Peak Pulse (10/1000µs): 6.1A; Power Line Protection: No; Power - Peak Pulse: 1500W (1.5kW); Type: Zener; Unidirectional Channels: 1; Voltage - Breakdown (Min): 171V; Part Number: 1.5SMC180A-E3/57T; Applications: General Purpose; ComponentLink1Description: Datasheet; ComponentLink1URL: http://www.vishay.com/docs/88303/15smc.pdf; ComponentLink2Description: DigiKey Link; ComponentLink2URL: http://digikey.com/product-detail/en/vishay-semiconductor-diodes-division/1.5SMC180A-E3-57T/1.5SMC180A-E3-57TGICT-ND/5638981; LastUpdated: 9/2/2020 1:20:08 AM; Lifecycle Status: Active; Minimum Order: 1; Mounting Type: Surface Mount; Operating Temperature: -65°C ~ 150°C (TJ); Package / Case: DO-214AB, SMC; Packaging: TapeAndReel; PartId: 7235; Part Status: Active; Price: 0.28; Series: 1.5SMC, TransZorb®; Supplier 1: DigiKey; Supplier Part Number 1: 1.5SMC180A-E3/57TGICT-ND; Supplier Device Package: SMC (DO-214AB); Voltage - Clamping (Max) @ Ipp: 246V; Voltage - Reverse Standoff (Typ): 154V
footprint DO214AB SMC
pins: 1, 2

## 1.5SMC180CA
designator D?
TVS DIODE 154V 246V DO214AB; Manufacturer: Bourns Inc.; Bidirectional Channels: 1; Current - Peak Pulse (10/1000µs): 6.2A; Power Line Protection: No; Power - Peak Pulse: 1500W (1.5kW); Type: Zener; Voltage - Breakdown (Min): 171V; Part Number: 1.5SMC180CA; Applications: General Purpose; ComponentLink1Description: Datasheet; ComponentLink1URL: https://www.bourns.com/data/global/pdfs/1.5SMC.pdf; ComponentLink2Description: DigiKey Link; ComponentLink2URL: http://digikey.com/product-detail/en/bourns-inc/1.5SMC180CA/1.5SMC180CABBCT-ND/6708170; LastUpdated: 9/2/2020 1:28:08 AM; Lifecycle Status: Active; Minimum Order: 1; Mounting Type: Surface Mount; Operating Temperature: -55°C ~ 150°C (TJ); Package / Case: DO-214AB, SMC; Packaging: TapeAndReel; PartId: 8663; Part Status: Active; Price: 0.36; Series: -; Supplier 1: DigiKey; Supplier Part Number 1: 1.5SMC180CABBCT-ND; Supplier Device Package: DO-214AB (SMC); Voltage - Clamping (Max) @ Ipp: 246V; Voltage - Reverse Standoff (Typ): 154V
footprint DO214AB SMC
pins: 1, 2

## 1.5SMC180CA-E3/57T
designator D?
TVS DIODE 154V 246V DO214AB; Manufacturer: Vishay Semiconductor Diodes Division; Bidirectional Channels: 1; Current - Peak Pulse (10/1000µs): 6.1A; Power Line Protection: No; Power - Peak Pulse: 1500W (1.5kW); Type: Zener; Voltage - Breakdown (Min): 171V; Part Number: 1.5SMC180CA-E3/57T; Applications: General Purpose; ComponentLink1Description: Datasheet; ComponentLink1URL: http://www.vishay.com/docs/88303/15smc.pdf; ComponentLink2Description: DigiKey Link; ComponentLink2URL: http://digikey.com/product-detail/en/vishay-semiconductor-diodes-division/1.5SMC180CA-E3-57T/1.5SMC180CA-E3-57TGICT-ND/5638982; LastUpdated: 9/2/2020 1:28:09 AM; Lifecycle Status: Active; Minimum Order: 1; Mounting Type: Surface Mount; Operating Temperature: -65°C ~ 150°C (TJ); Package / Case: DO-214AB, SMC; Packaging: TapeAndReel; PartId: 8744; Part Status: Active; Price: 0.33; Series: 1.5SMC, TransZorb®; Supplier 1: DigiKey; Supplier Part Number 1: 1.5SMC180CA-E3/57TGICT-ND; Supplier Device Package: SMC (DO-214AB); Voltage - Clamping (Max) @ Ipp: 246V; Voltage - Reverse Standoff (Typ): 154V
footprint DO214AB SMC
pins: 1, 2

## 1.5SMC200A
designator D?
TVS DIODE 171V 274V DO214AB; Manufacturer: Littelfuse Inc.; Current - Peak Pulse (10/1000µs): 5.5A; Power Line Protection: No; Power - Peak Pulse: 1500W (1.5kW); Type: Zener; Unidirectional Channels: 1; Voltage - Breakdown (Min): 190V; Part Number: 1.5SMC200A; Applications: General Purpose; ComponentLink1Description: Datasheet; ComponentLink1URL: https://www.littelfuse.com/~/media/electronics/datasheets/tvs_diodes/littelfuse_tvs_diode_1_5smc_datasheet.pdf.pdf; ComponentLink2Description: DigiKey Link; ComponentLink2URL: http://digikey.com/product-detail/en/littelfuse-inc/1.5SMC200A/1.5SMC200ACT-ND/2770252; LastUpdated: 9/2/2020 1:20:07 AM; Lifecycle Status: Active; Minimum Order: 1; Mounting Type: Surface Mount; Operating Temperature: -55°C ~ 150°C (TJ); Package / Case: DO-214AB, SMC; Packaging: TapeAndReel; PartId: 7157; Part Status: Active; Price: 0.23; Series: 1.5SMC; Supplier 1: DigiKey; Supplier Part Number 1: 1.5SMC200ACT-ND; Supplier Device Package: DO-214AB (SMCJ); Voltage - Clamping (Max) @ Ipp: 274V; Voltage - Reverse Standoff (Typ): 171V
footprint DO214AB SMC
pins: 1, 2

## 1.5SMC200A TR13 PBFREE
designator D?
TVS DIODE 171V 274V SMC; Manufacturer: Central Semiconductor Corp; Current - Peak Pulse (10/1000µs): 5.5A; Power Line Protection: No; Power - Peak Pulse: 1500W (1.5kW); Type: Zener; Unidirectional Channels: 1; Voltage - Breakdown (Min): 190V; Part Number: 1.5SMC200A TR13 PBFREE; Applications: General Purpose; ComponentLink1Description: Datasheet; ComponentLink1URL: https://my.centralsemi.com/get_document.php?cmp=1&mergetype=pd&mergepath=pd&pdf_id=1.5SMC6.8A_200A.PDF; ComponentLink2Description: DigiKey Link; ComponentLink2URL: http://digikey.com/product-detail/en/central-semiconductor-corp/1.5SMC200A-TR13-PBFREE/1514-1.5SMC200ATR13PBFREECT-ND/5210771; LastUpdated: 9/2/2020 1:20:07 AM; Lifecycle Status: Active; Minimum Order: 1; Mounting Type: Surface Mount; Operating Temperature: -65°C ~ 150°C (TJ); Package / Case: DO-214AB, SMC; Packaging: TapeAndReel; PartId: 7119; Part Status: Active; Price: 0.40; Series: -; Supplier 1: DigiKey; Supplier Part Number 1: 1514-1.5SMC200ATR13PBFREECT-ND; Supplier Device Package: SMC; Voltage - Clamping (Max) @ Ipp: 274V; Voltage - Reverse Standoff (Typ): 171V
footprint DO214AB SMC
pins: 1, 2

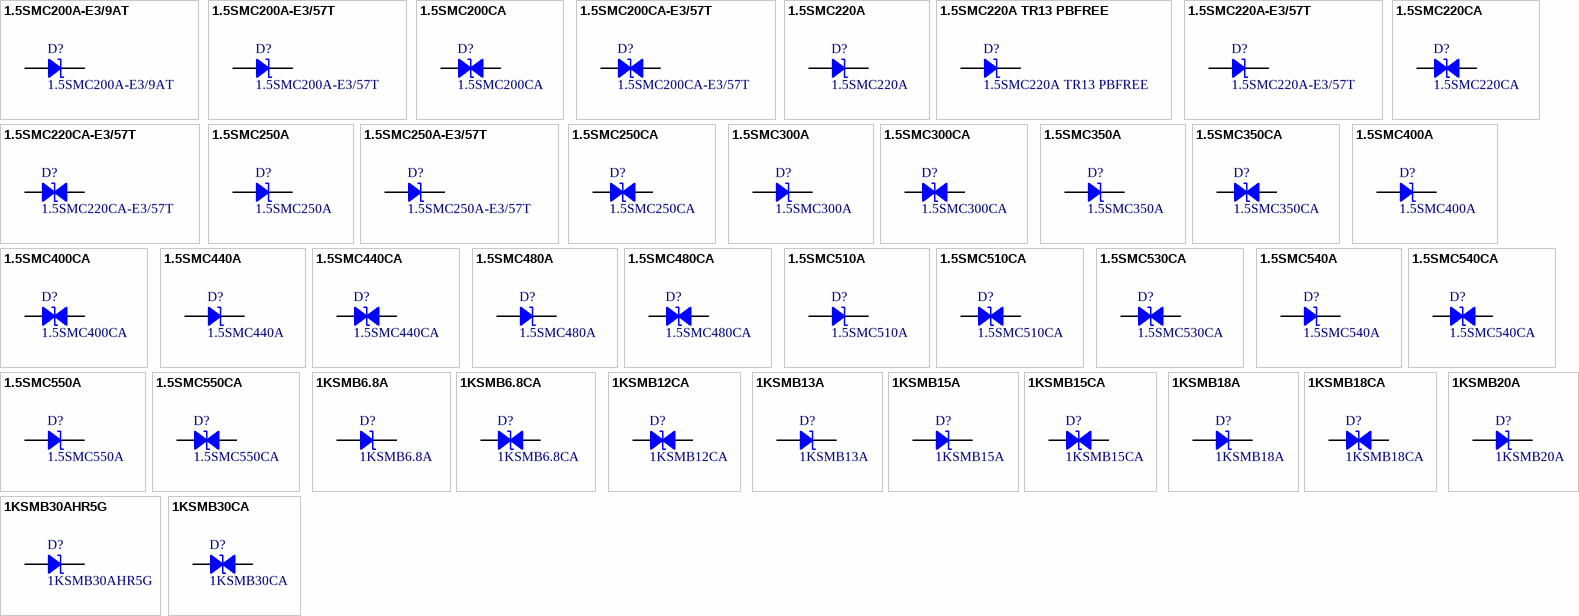
[diagram p4: symbols 1.5SMC200A-E3/9AT to 1KSMB30CA]

## 1.5SMC200A-E3/9AT
designator D?
TVS DIODE 171V 274V DO214AB; Manufacturer: Vishay Semiconductor Diodes Division; Current - Peak Pulse (10/1000µs): 5.5A; Power Line Protection: No; Power - Peak Pulse: 1500W (1.5kW); Type: Zener; Unidirectional Channels: 1; Voltage - Breakdown (Min): 190V; Part Number: 1.5SMC200A-E3/9AT; Applications: General Purpose; ComponentLink1Description: Datasheet; ComponentLink1URL: http://www.vishay.com/docs/88303/15smc.pdf; ComponentLink2Description: DigiKey Link; ComponentLink2URL: http://digikey.com/product-detail/en/vishay-semiconductor-diodes-division/1.5SMC200A-E3-9AT/1.5SMC200A-E3-9ATGICT-ND/9600362; LastUpdated: 9/2/2020 1:20:01 AM; Lifecycle Status: Active; Minimum Order: 1; Mounting Type: Surface Mount; Operating Temperature: -65°C ~ 150°C (TJ); Package / Case: DO-214AB, SMC; Packaging: TapeAndReel; PartId: 6462; Part Status: Active; Price: 0.21; Series: 1.5SMC, TransZorb®; Supplier 1: DigiKey; Supplier Part Number 1: 1.5SMC200A-E3/9ATGICT-ND; Supplier Device Package: SMC (DO-214AB); Voltage - Clamping (Max) @ Ipp: 274V; Voltage - Reverse Standoff (Typ): 171V
footprint DO214AB SMC
pins: 1, 2

## 1.5SMC200A-E3/57T
designator D?
TVS DIODE 171V 274V DO214AB; Manufacturer: Vishay Semiconductor Diodes Division; Current - Peak Pulse (10/1000µs): 5.5A; Power Line Protection: No; Power - Peak Pulse: 1500W (1.5kW); Type: Zener; Unidirectional Channels: 1; Voltage - Breakdown (Min): 190V; Part Number: 1.5SMC200A-E3/57T; Applications: General Purpose; ComponentLink1Description: Datasheet; ComponentLink1URL: http://www.vishay.com/docs/88303/15smc.pdf; ComponentLink2Description: DigiKey Link; ComponentLink2URL: http://digikey.com/product-detail/en/vishay-semiconductor-diodes-division/1.5SMC200A-E3-57T/1.5SMC200A-E3-57TGICT-ND/3847595; LastUpdated: 9/2/2020 1:19:59 AM; Lifecycle Status: Active; Minimum Order: 1; Mounting Type: Surface Mount; Operating Temperature: -65°C ~ 150°C (TJ); Package / Case: DO-214AB, SMC; Packaging: TapeAndReel; PartId: 6278; Part Status: Active; Price: 0.28; Series: 1.5SMC, TransZorb®; Supplier 1: DigiKey; Supplier Part Number 1: 1.5SMC200A-E3/57TGICT-ND; Supplier Device Package: SMC (DO-214AB); Voltage - Clamping (Max) @ Ipp: 274V; Voltage - Reverse Standoff (Typ): 171V
footprint DO214AB SMC
pins: 1, 2

## 1.5SMC200CA
designator D?
TVS DIODE 171V 274V DO214AB; Manufacturer: Littelfuse Inc.; Bidirectional Channels: 1; Current - Peak Pulse (10/1000µs): 5.5A; Power Line Protection: No; Power - Peak Pulse: 1500W (1.5kW); Type: Zener; Voltage - Breakdown (Min): 190V; Part Number: 1.5SMC200CA; Applications: General Purpose; ComponentLink1Description: Datasheet; ComponentLink1URL: https://www.littelfuse.com/~/media/electronics/datasheets/tvs_diodes/littelfuse_tvs_diode_1_5smc_datasheet.pdf.pdf; ComponentLink2Description: DigiKey Link; ComponentLink2URL: http://digikey.com/product-detail/en/littelfuse-inc/1.5SMC200CA/1.5SMC200CACT-ND/2770253; LastUpdated: 9/2/2020 1:28:05 AM; Lifecycle Status: Active; Minimum Order: 1; Mounting Type: Surface Mount; Operating Temperature: -55°C ~ 150°C (TJ); Package / Case: DO-214AB, SMC; Packaging: TapeAndReel; PartId: 8282; Part Status: Active; Price: 0.31; Series: 1.5SMC; Supplier 1: DigiKey; Supplier Part Number 1: 1.5SMC200CACT-ND; Supplier Device Package: DO-214AB (SMCJ); Voltage - Clamping (Max) @ Ipp: 274V; Voltage - Reverse Standoff (Typ): 171V
footprint DO214AB SMC
pins: 1, 2

## 1.5SMC200CA-E3/57T
designator D?
TVS DIODE 171V 274V DO214AB; Manufacturer: Vishay Semiconductor Diodes Division; Bidirectional Channels: 1; Current - Peak Pulse (10/1000µs): 5.5A; Power Line Protection: No; Power - Peak Pulse: 1500W (1.5kW); Type: Zener; Voltage - Breakdown (Min): 190V; Part Number: 1.5SMC200CA-E3/57T; Applications: General Purpose; ComponentLink1Description: Datasheet; ComponentLink1URL: http://www.vishay.com/docs/88303/15smc.pdf; ComponentLink2Description: DigiKey Link; ComponentLink2URL: http://digikey.com/product-detail/en/vishay-semiconductor-diodes-division/1.5SMC200CA-E3-57T/1.5SMC200CA-E3-57TGICT-ND/5638985; LastUpdated: 9/2/2020 1:28:05 AM; Lifecycle Status: Active; Minimum Order: 1; Mounting Type: Surface Mount; Operating Temperature: -65°C ~ 150°C (TJ); Package / Case: DO-214AB, SMC; Packaging: TapeAndReel; PartId: 8294; Part Status: Active; Price: 0.33; Series: 1.5SMC, TransZorb®; Supplier 1: DigiKey; Supplier Part Number 1: 1.5SMC200CA-E3/57TGICT-ND; Supplier Device Package: SMC (DO-214AB); Voltage - Clamping (Max) @ Ipp: 274V; Voltage - Reverse Standoff (Typ): 171V
footprint DO214AB SMC
pins: 1, 2

## 1.5SMC220A
designator D?
TVS DIODE 185V 328V DO214AB; Manufacturer: Littelfuse Inc.; Current - Peak Pulse (10/1000µs): 4.6A; Power Line Protection: No; Power - Peak Pulse: 1500W (1.5kW); Type: Zener; Unidirectional Channels: 1; Voltage - Breakdown (Min): 209V; Part Number: 1.5SMC220A; Applications: General Purpose; ComponentLink1Description: Datasheet; ComponentLink1URL: https://www.littelfuse.com/~/media/electronics/datasheets/tvs_diodes/littelfuse_tvs_diode_1_5smc_datasheet.pdf.pdf; ComponentLink2Description: DigiKey Link; ComponentLink2URL: http://digikey.com/product-detail/en/littelfuse-inc/1.5SMC220A/1.5SMC220ACT-ND/2770254; LastUpdated: 9/2/2020 1:20:04 AM; Lifecycle Status: Active; Minimum Order: 1; Mounting Type: Surface Mount; Operating Temperature: -55°C ~ 150°C (TJ); Package / Case: DO-214AB, SMC; Packaging: TapeAndReel; PartId: 6842; Part Status: Active; Price: 0.22; Series: 1.5SMC; Supplier 1: DigiKey; Supplier Part Number 1: 1.5SMC220ACT-ND; Supplier Device Package: DO-214AB (SMCJ); Voltage - Clamping (Max) @ Ipp: 328V; Voltage - Reverse Standoff (Typ): 185V
footprint DO214AB SMC
pins: 1, 2

## 1.5SMC220A TR13 PBFREE
designator D?
TVS DIODE 185V 328V SMC; Manufacturer: Central Semiconductor Corp; Current - Peak Pulse (10/1000µs): 4.6A; Power Line Protection: No; Power - Peak Pulse: 1500W (1.5kW); Type: Zener; Unidirectional Channels: 1; Voltage - Breakdown (Min): 209V; Part Number: 1.5SMC220A TR13 PBFREE; Applications: General Purpose; ComponentLink1Description: Datasheet; ComponentLink1URL: https://my.centralsemi.com/get_document.php?cmp=1&mergetype=pd&mergepath=pd&pdf_id=1.5SMC6.8A_200A.PDF; ComponentLink2Description: DigiKey Link; ComponentLink2URL: http://digikey.com/product-detail/en/central-semiconductor-corp/1.5SMC220A-TR13-PBFREE/1514-1.5SMC220ATR13PBFREECT-ND/5210775; LastUpdated: 9/2/2020 1:20:00 AM; Lifecycle Status: Active; Minimum Order: 1; Mounting Type: Surface Mount; Operating Temperature: -65°C ~ 150°C (TJ); Package / Case: DO-214AB, SMC; Packaging: TapeAndReel; PartId: 6456; Part Status: Active; Price: 0.46; Series: -; Supplier 1: DigiKey; Supplier Part Number 1: 1514-1.5SMC220ATR13PBFREECT-ND; Supplier Device Package: SMC; Voltage - Clamping (Max) @ Ipp: 328V; Voltage - Reverse Standoff (Typ): 185V
footprint DO214AB SMC
pins: 1, 2

## 1.5SMC220A-E3/57T
designator D?
TVS DIODE 185V 328V DO214AB; Manufacturer: Vishay Semiconductor Diodes Division; Current - Peak Pulse (10/1000µs): 4.6A; Power Line Protection: No; Power - Peak Pulse: 1500W (1.5kW); Type: Zener; Unidirectional Channels: 1; Voltage - Breakdown (Min): 209V; Part Number: 1.5SMC220A-E3/57T; Applications: General Purpose; ComponentLink1Description: Datasheet; ComponentLink1URL: http://www.vishay.com/docs/88303/15smc.pdf; ComponentLink2Description: DigiKey Link; ComponentLink2URL: http://digikey.com/product-detail/en/vishay-semiconductor-diodes-division/1.5SMC220A-E3-57T/1.5SMC220A-E3-57TGICT-ND/3847596; LastUpdated: 9/2/2020 1:20:03 AM; Lifecycle Status: Active; Minimum Order: 1; Mounting Type: Surface Mount; Operating Temperature: -65°C ~ 150°C (TJ); Package / Case: DO-214AB, SMC; Packaging: TapeAndReel; PartId: 6685; Part Status: Active; Price: 0.28; Series: 1.5SMC, TransZorb®; Supplier 1: DigiKey; Supplier Part Number 1: 1.5SMC220A-E3/57TGICT-ND; Supplier Device Package: SMC (DO-214AB); Voltage - Clamping (Max) @ Ipp: 328V; Voltage - Reverse Standoff (Typ): 185V
footprint DO214AB SMC
pins: 1, 2

## 1.5SMC220CA
designator D?
TVS DIODE 185V 328V DO214AB; Manufacturer: Littelfuse Inc.; Bidirectional Channels: 1; Current - Peak Pulse (10/1000µs): 4.6A; Power Line Protection: No; Power - Peak Pulse: 1500W (1.5kW); Type: Zener; Voltage - Breakdown (Min): 209V; Part Number: 1.5SMC220CA; Applications: General Purpose; ComponentLink1Description: Datasheet; ComponentLink1URL: https://www.littelfuse.com/~/media/electronics/datasheets/tvs_diodes/littelfuse_tvs_diode_1_5smc_datasheet.pdf.pdf; ComponentLink2Description: DigiKey Link; ComponentLink2URL: http://digikey.com/product-detail/en/littelfuse-inc/1.5SMC220CA/1.5SMC220CACT-ND/2770255; LastUpdated: 9/2/2020 1:28:02 AM; Lifecycle Status: Active; Minimum Order: 1; Mounting Type: Surface Mount; Operating Temperature: -55°C ~ 150°C (TJ); Package / Case: DO-214AB, SMC; Packaging: TapeAndReel; PartId: 8002; Part Status: Active; Price: 0.36; Series: 1.5SMC; Supplier 1: DigiKey; Supplier Part Number 1: 1.5SMC220CACT-ND; Supplier Device Package: DO-214AB (SMCJ); Voltage - Clamping (Max) @ Ipp: 328V; Voltage - Reverse Standoff (Typ): 185V
footprint DO214AB SMC
pins: 1, 2

## 1.5SMC220CA-E3/57T
designator D?
TVS DIODE 185V 328V DO214AB; Manufacturer: Vishay Semiconductor Diodes Division; Bidirectional Channels: 1; Current - Peak Pulse (10/1000µs): 4.6A; Power Line Protection: No; Power - Peak Pulse: 1500W (1.5kW); Type: Zener; Voltage - Breakdown (Min): 209V; Part Number: 1.5SMC220CA-E3/57T; Applications: General Purpose; ComponentLink1Description: Datasheet; ComponentLink1URL: http://www.vishay.com/docs/88303/15smc.pdf; ComponentLink2Description: DigiKey Link; ComponentLink2URL: http://digikey.com/product-detail/en/vishay-semiconductor-diodes-division/1.5SMC220CA-E3-57T/1.5SMC220CA-E3-57TGICT-ND/3711899; LastUpdated: 9/2/2020 1:28:05 AM; Lifecycle Status: Active; Minimum Order: 1; Mounting Type: Surface Mount; Operating Temperature: -65°C ~ 150°C (TJ); Package / Case: DO-214AB, SMC; Packaging: TapeAndReel; PartId: 8299; Part Status: Active; Price: 0.33; Series: 1.5SMC, TransZorb®; Supplier 1: DigiKey; Supplier Part Number 1: 1.5SMC220CA-E3/57TGICT-ND; Supplier Device Package: SMC (DO-214AB); Voltage - Clamping (Max) @ Ipp: 328V; Voltage - Reverse Standoff (Typ): 185V
footprint DO214AB SMC
pins: 1, 2

## 1.5SMC250A
designator D?
TVS DIODE 214V 344V DO214AB; Manufacturer: Littelfuse Inc.; Current - Peak Pulse (10/1000µs): 4.4A; Power Line Protection: No; Power - Peak Pulse: 1500W (1.5kW); Type: Zener; Unidirectional Channels: 1; Voltage - Breakdown (Min): 237V; Part Number: 1.5SMC250A; Applications: General Purpose; ComponentLink1Description: Datasheet; ComponentLink1URL: https://www.littelfuse.com/~/media/electronics/datasheets/tvs_diodes/littelfuse_tvs_diode_1_5smc_datasheet.pdf.pdf; ComponentLink2Description: DigiKey Link; ComponentLink2URL: http://digikey.com/product-detail/en/littelfuse-inc/1.5SMC250A/1.5SMC250ACT-ND/2770256; LastUpdated: 9/2/2020 1:20:01 AM; Lifecycle Status: Active; Minimum Order: 1; Mounting Type: Surface Mount; Operating Temperature: -55°C ~ 150°C (TJ); Package / Case: DO-214AB, SMC; Packaging: TapeAndReel; PartId: 6480; Part Status: Active; Price: 0.35; Series: 1.5SMC; Supplier 1: DigiKey; Supplier Part Number 1: 1.5SMC250ACT-ND; Supplier Device Package: DO-214AB (SMCJ); Voltage - Clamping (Max) @ Ipp: 344V; Voltage - Reverse Standoff (Typ): 214V
footprint DO214AB SMC
pins: 1, 2

## 1.5SMC250A-E3/57T
designator D?
TVS DIODE 214V 344V DO214AB; Manufacturer: Vishay Semiconductor Diodes Division; Current - Peak Pulse (10/1000µs): 4.4A; Power Line Protection: No; Power - Peak Pulse: 1500W (1.5kW); Type: Zener; Unidirectional Channels: 1; Voltage - Breakdown (Min): 237V; Part Number: 1.5SMC250A-E3/57T; Applications: General Purpose; ComponentLink1Description: Datasheet; ComponentLink1URL: http://www.vishay.com/docs/88303/15smc.pdf; ComponentLink2Description: DigiKey Link; ComponentLink2URL: http://digikey.com/product-detail/en/vishay-semiconductor-diodes-division/1.5SMC250A-E3-57T/1.5SMC250A-E3-57TGICT-ND/5638988; LastUpdated: 9/2/2020 1:20:07 AM; Lifecycle Status: Active; Minimum Order: 1; Mounting Type: Surface Mount; Operating Temperature: -65°C ~ 150°C (TJ); Package / Case: DO-214AB, SMC; Packaging: TapeAndReel; PartId: 7181; Part Status: Active; Price: 0.41; Series: 1.5SMC, TransZorb®; Supplier 1: DigiKey; Supplier Part Number 1: 1.5SMC250A-E3/57TGICT-ND; Supplier Device Package: SMC (DO-214AB); Voltage - Clamping (Max) @ Ipp: 344V; Voltage - Reverse Standoff (Typ): 214V
footprint DO214AB SMC
pins: 1, 2

## 1.5SMC250CA
designator D?
TVS DIODE 214V 344V DO214AB; Manufacturer: Littelfuse Inc.; Bidirectional Channels: 1; Current - Peak Pulse (10/1000µs): 4.4A; Power Line Protection: No; Power - Peak Pulse: 1500W (1.5kW); Type: Zener; Voltage - Breakdown (Min): 237V; Part Number: 1.5SMC250CA; Applications: General Purpose; ComponentLink1Description: Datasheet; ComponentLink1URL: https://www.littelfuse.com/~/media/electronics/datasheets/tvs_diodes/littelfuse_tvs_diode_1_5smc_datasheet.pdf.pdf; ComponentLink2Description: DigiKey Link; ComponentLink2URL: http://digikey.com/product-detail/en/littelfuse-inc/1.5SMC250CA/1.5SMC250CACT-ND/2770257; LastUpdated: 9/2/2020 1:28:03 AM; Lifecycle Status: Active; Minimum Order: 1; Mounting Type: Surface Mount; Operating Temperature: -55°C ~ 150°C (TJ); Package / Case: DO-214AB, SMC; Packaging: TapeAndReel; PartId: 8104; Part Status: Active; Price: 0.36; Series: 1.5SMC; Supplier 1: DigiKey; Supplier Part Number 1: 1.5SMC250CACT-ND; Supplier Device Package: DO-214AB (SMCJ); Voltage - Clamping (Max) @ Ipp: 344V; Voltage - Reverse Standoff (Typ): 214V
footprint DO214AB SMC
pins: 1, 2

## 1.5SMC300A
designator D?
TVS DIODE 256V 414V DO214AB; Manufacturer: Littelfuse Inc.; Current - Peak Pulse (10/1000µs): 3.7A; Power Line Protection: No; Power - Peak Pulse: 1500W (1.5kW); Type: Zener; Unidirectional Channels: 1; Voltage - Breakdown (Min): 285V; Part Number: 1.5SMC300A; Applications: General Purpose; ComponentLink1Description: Datasheet; ComponentLink1URL: https://www.littelfuse.com/~/media/electronics/datasheets/tvs_diodes/littelfuse_tvs_diode_1_5smc_datasheet.pdf.pdf; ComponentLink2Description: DigiKey Link; ComponentLink2URL: http://digikey.com/product-detail/en/littelfuse-inc/1.5SMC300A/1.5SMC300ACT-ND/2770258; LastUpdated: 9/2/2020 1:20:04 AM; Lifecycle Status: Active; Minimum Order: 1; Mounting Type: Surface Mount; Operating Temperature: -55°C ~ 150°C (TJ); Package / Case: DO-214AB, SMC; Packaging: TapeAndReel; PartId: 6841; Part Status: Active; Price: 0.35; Series: 1.5SMC; Supplier 1: DigiKey; Supplier Part Number 1: 1.5SMC300ACT-ND; Supplier Device Package: DO-214AB (SMCJ); Voltage - Clamping (Max) @ Ipp: 414V; Voltage - Reverse Standoff (Typ): 256V
footprint DO214AB SMC
pins: 1, 2